# Altium schematic symbol library MOSFET,N Ch,200V,50A,IRFP260MPBF.Schlib: 1 symbol
Pins are listed as number, name and electrical type; pins without a type are passive.

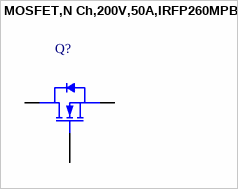
[diagram p0: symbol MOSFET,N Ch,200V,50A,IRFP260MPBF]

## MOSFET,N Ch,200V,50A,IRFP260MPBF
designator Q?
pins: 1 G, 2 D, 3 S